# Altium schematic symbol library Oscillator_Vectron_VCC1-B2B-25M000.SchLib: 1 symbol
Pins are listed as number, name and electrical type; pins without a type are passive.

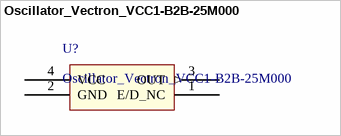
[diagram p0: symbol Oscillator_Vectron_VCC1-B2B-25M000]

## Oscillator_Vectron_VCC1-B2B-25M000
designator U?
pins: 1 E/D_NC, 2 GND (power), 3 OUT (out), 4 VCC (power)